# EAGLE library part RT8272 (library RemoteHome)
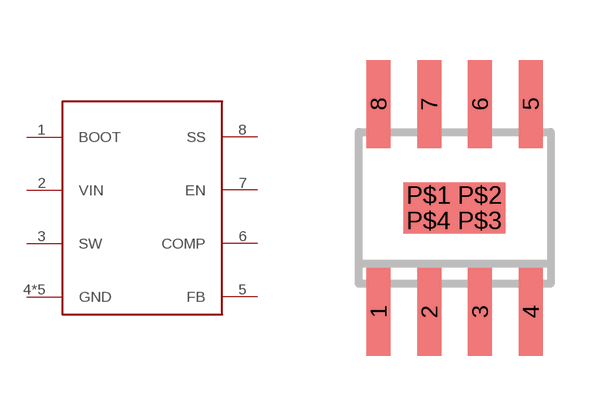
[diagram p0: symbol with the pads of RT8272; footprint RT8272]

Designator prefix -

## RT8272  [RT8272]
1  BOOT
2  VIN
3  SW
4  GND
5  FB
6  COMP
7  EN
8  SS
P$1  GND
P$2  GND
P$3  GND
P$4  GND

## Footprint RT8272 (pad centres in mm)
smd 0.6 x 2.2: 1 -1.905,-2.6; 2 -0.635,-2.6; 3 0.635,-2.6; 4 1.905,-2.6; 5 1.905,2.6; 6 0.635,2.6; 7 -0.635,2.6; 8 -1.905,2.6
smd 1.27 x 0.635: P$1 -0.652,0.315; P$2 0.631,0.315; P$3 0.631,-0.322; P$4 -0.652,-0.322